# EAGLE library part NUCLEO-F767ZI (library NUCLEO-F429ZI)
STM32 Nucleo-144 development board with STM32F429ZIT6 MCU, supports Arduino, ST Zio and Morpho
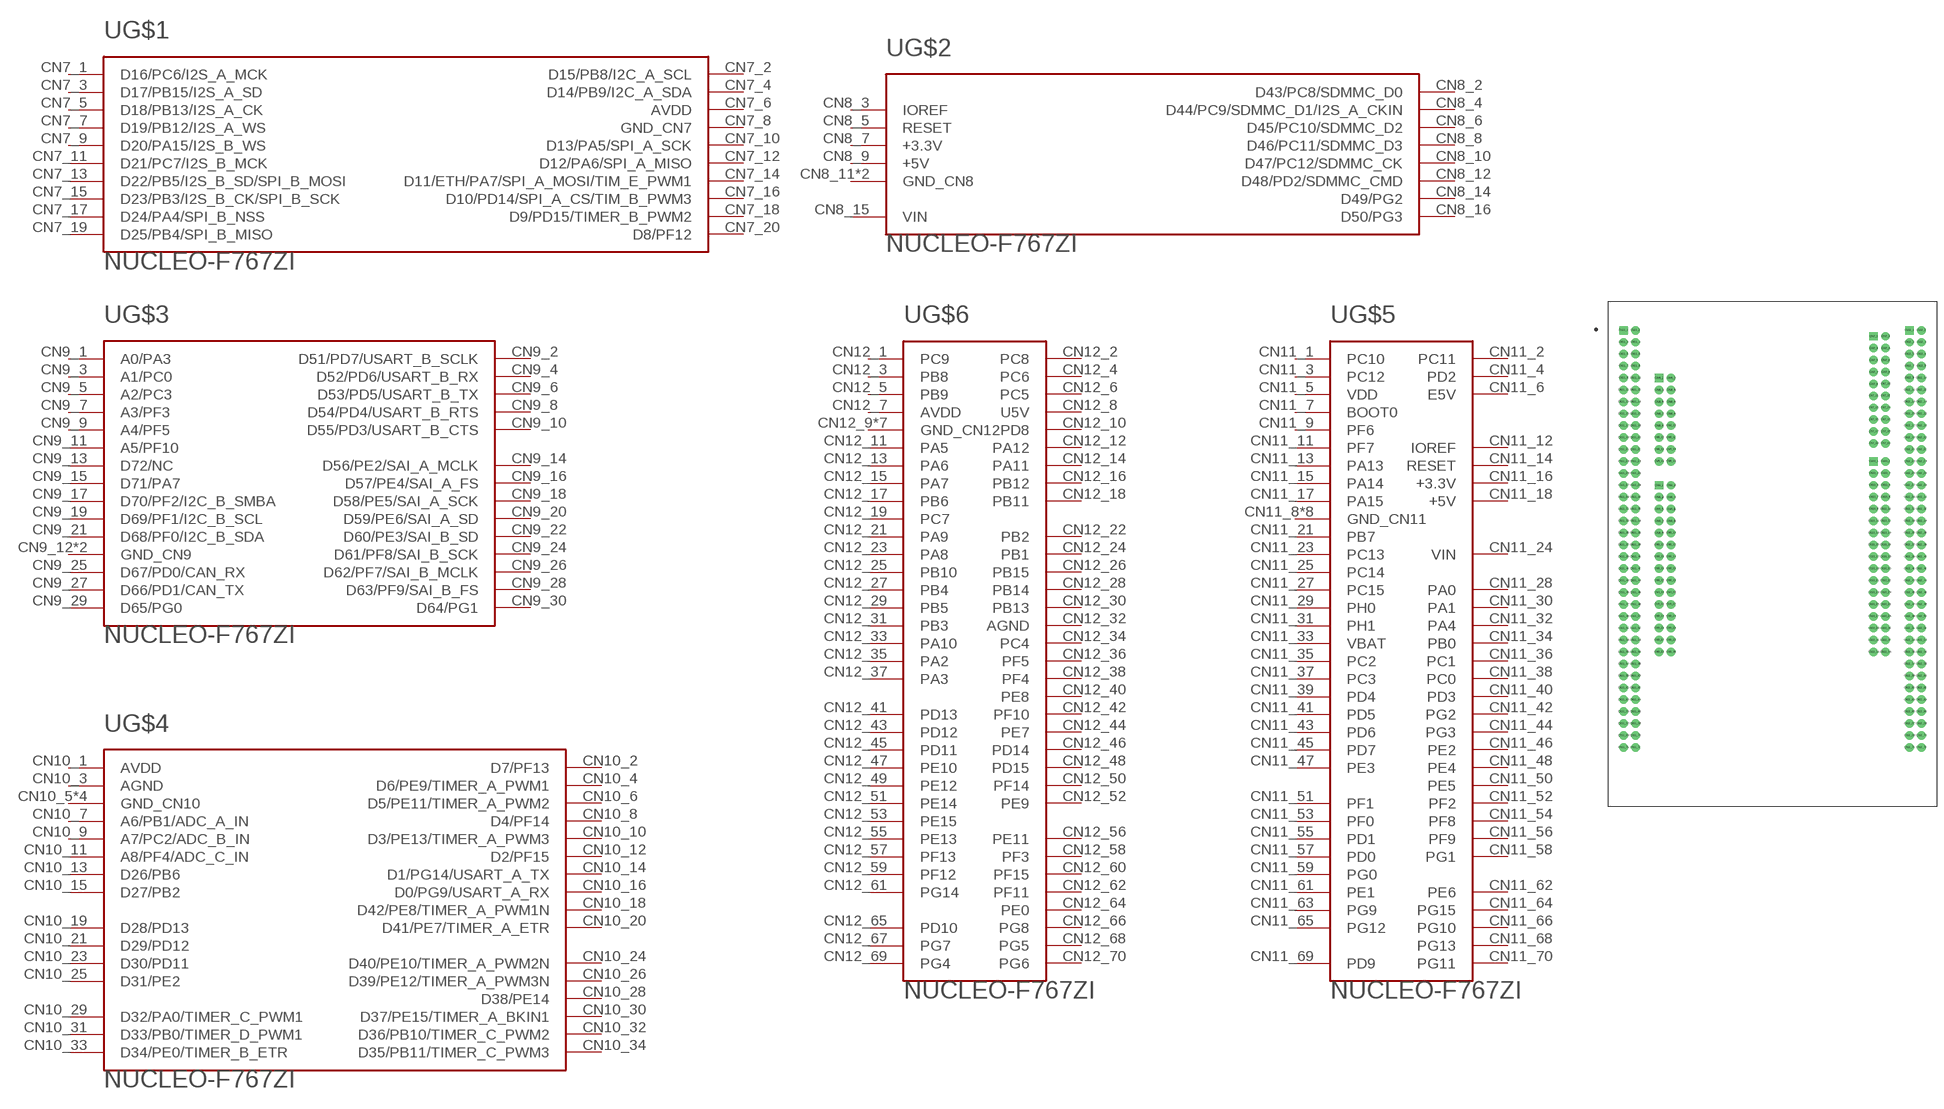
[diagram p0: symbol with the pads of MODULE_NUCLEO-F429ZI; footprint MODULE_NUCLEO-F429ZI]

Designator prefix U; gates G$1=NUCLEO-F429ZI_SECTION1 G$2=NUCLEO-F429ZI_SECTION2 G$3=NUCLEO-F429ZI_SECTION3 G$4=NUCLEO-F429ZI_SECTION4 G$5=NUCLEO-F429ZI_SECTION5 G$6=NUCLEO-F429ZI_SECTION6

## NUCLEO-F767ZI (AVAILABILITY: Unavailable; DESCRIPTION: STM32 Nucleo-144 development board with STM32F429ZIT6 MCU, supports Arduino, ST Zio and Morpho; MF: STMicroelectronics; MP: NUCLEO-F429ZI; PACKAGE: None; PRICE: None)  [MODULE_NUCLEO-F429ZI]
CN7_1  G$1:D16/PC6/I2S_A_MCK  pas
CN7_2  G$1:D15/PB8/I2C_A_SCL  pas
CN7_3  G$1:D17/PB15/I2S_A_SD  pas
CN7_4  G$1:D14/PB9/I2C_A_SDA  pas
CN7_5  G$1:D18/PB13/I2S_A_CK  pas
CN7_6  G$1:AVDD  pas
CN7_7  G$1:D19/PB12/I2S_A_WS  pas
CN7_8  G$1:GND_CN7  pas
CN7_9  G$1:D20/PA15/I2S_B_WS  pas
CN7_10  G$1:D13/PA5/SPI_A_SCK  pas
CN7_11  G$1:D21/PC7/I2S_B_MCK  pas
CN7_12  G$1:D12/PA6/SPI_A_MISO  pas
CN7_13  G$1:D22/PB5/I2S_B_SD/SPI_B_MOSI  pas
CN7_14  G$1:D11/ETH/PA7/SPI_A_MOSI/TIM_E_PWM1  pas
CN7_15  G$1:D23/PB3/I2S_B_CK/SPI_B_SCK  pas
CN7_16  G$1:D10/PD14/SPI_A_CS/TIM_B_PWM3  pas
CN7_17  G$1:D24/PA4/SPI_B_NSS  pas
CN7_18  G$1:D9/PD15/TIMER_B_PWM2  pas
CN7_19  G$1:D25/PB4/SPI_B_MISO  pas
CN7_20  G$1:D8/PF12  pas
CN8_2  G$2:D43/PC8/SDMMC_D0  pas
CN8_3  G$2:IOREF  pas
CN8_4  G$2:D44/PC9/SDMMC_D1/I2S_A_CKIN  pas
CN8_5  G$2:RESET  pas
CN8_6  G$2:D45/PC10/SDMMC_D2  pas
CN8_7  G$2:+3.3V  pas
CN8_8  G$2:D46/PC11/SDMMC_D3  pas
CN8_9  G$2:+5V  pas
CN8_10  G$2:D47/PC12/SDMMC_CK  pas
CN8_11  G$2:GND_CN8  pas
CN8_12  G$2:D48/PD2/SDMMC_CMD  pas
CN8_13  G$2:GND_CN8  pas
CN8_14  G$2:D49/PG2  pas
CN8_15  G$2:VIN  pas
CN8_16  G$2:D50/PG3  pas
CN9_1  G$3:A0/PA3  pas
CN9_2  G$3:D51/PD7/USART_B_SCLK  pas
CN9_3  G$3:A1/PC0  pas
CN9_4  G$3:D52/PD6/USART_B_RX  pas
CN9_5  G$3:A2/PC3  pas
CN9_6  G$3:D53/PD5/USART_B_TX  pas
CN9_7  G$3:A3/PF3  pas
CN9_8  G$3:D54/PD4/USART_B_RTS  pas
CN9_9  G$3:A4/PF5  pas
CN9_10  G$3:D55/PD3/USART_B_CTS  pas
CN9_11  G$3:A5/PF10  pas
CN9_12  G$3:GND_CN9  pas
CN9_13  G$3:D72/NC  pas
CN9_14  G$3:D56/PE2/SAI_A_MCLK  pas
CN9_15  G$3:D71/PA7  pas
CN9_16  G$3:D57/PE4/SAI_A_FS  pas
CN9_17  G$3:D70/PF2/I2C_B_SMBA  pas
CN9_18  G$3:D58/PE5/SAI_A_SCK  pas
CN9_19  G$3:D69/PF1/I2C_B_SCL  pas
CN9_20  G$3:D59/PE6/SAI_A_SD  pas
CN9_21  G$3:D68/PF0/I2C_B_SDA  pas
CN9_22  G$3:D60/PE3/SAI_B_SD  pas
CN9_23  G$3:GND_CN9  pas
CN9_24  G$3:D61/PF8/SAI_B_SCK  pas
CN9_25  G$3:D67/PD0/CAN_RX  pas
CN9_26  G$3:D62/PF7/SAI_B_MCLK  pas
CN9_27  G$3:D66/PD1/CAN_TX  pas
CN9_28  G$3:D63/PF9/SAI_B_FS  pas
CN9_29  G$3:D65/PG0  pas
CN9_30  G$3:D64/PG1  pas
CN10_1  G$4:AVDD  pas
CN10_2  G$4:D7/PF13  pas
CN10_3  G$4:AGND  pas
CN10_4  G$4:D6/PE9/TIMER_A_PWM1  pas
CN10_5  G$4:GND_CN10  pas
CN10_6  G$4:D5/PE11/TIMER_A_PWM2  pas
CN10_7  G$4:A6/PB1/ADC_A_IN  pas
CN10_8  G$4:D4/PF14  pas
CN10_9  G$4:A7/PC2/ADC_B_IN  pas
CN10_10  G$4:D3/PE13/TIMER_A_PWM3  pas
CN10_11  G$4:A8/PF4/ADC_C_IN  pas
CN10_12  G$4:D2/PF15  pas
CN10_13  G$4:D26/PB6  pas
CN10_14  G$4:D1/PG14/USART_A_TX  pas
CN10_15  G$4:D27/PB2  pas
CN10_16  G$4:D0/PG9/USART_A_RX  pas
CN10_17  G$4:GND_CN10  pas
CN10_18  G$4:D42/PE8/TIMER_A_PWM1N  pas
CN10_19  G$4:D28/PD13  pas
CN10_20  G$4:D41/PE7/TIMER_A_ETR  pas
CN10_21  G$4:D29/PD12  pas
CN10_22  G$4:GND_CN10  pas
CN10_23  G$4:D30/PD11  pas
CN10_24  G$4:D40/PE10/TIMER_A_PWM2N  pas
CN10_25  G$4:D31/PE2  pas
CN10_26  G$4:D39/PE12/TIMER_A_PWM3N  pas
CN10_27  G$4:GND_CN10  pas
CN10_28  G$4:D38/PE14  pas
CN10_29  G$4:D32/PA0/TIMER_C_PWM1  pas
CN10_30  G$4:D37/PE15/TIMER_A_BKIN1  pas
CN10_31  G$4:D33/PB0/TIMER_D_PWM1  pas
CN10_32  G$4:D36/PB10/TIMER_C_PWM2  pas
CN10_33  G$4:D34/PE0/TIMER_B_ETR  pas
CN10_34  G$4:D35/PB11/TIMER_C_PWM3  pas
CN11_1  G$5:PC10  pas
CN11_2  G$5:PC11  pas
CN11_3  G$5:PC12  pas
CN11_4  G$5:PD2  pas
CN11_5  G$5:VDD  pas
CN11_6  G$5:E5V  pas
CN11_7  G$5:BOOT0  pas
CN11_8  G$5:GND_CN11  pas
CN11_9  G$5:PF6  pas
CN11_11  G$5:PF7  pas
CN11_12  G$5:IOREF  pas
CN11_13  G$5:PA13  pas
CN11_14  G$5:RESET  pas
CN11_15  G$5:PA14  pas
CN11_16  G$5:+3.3V  pas
CN11_17  G$5:PA15  pas
CN11_18  G$5:+5V  pas
CN11_19  G$5:GND_CN11  pas
CN11_20  G$5:GND_CN11  pas
CN11_21  G$5:PB7  pas
CN11_22  G$5:GND_CN11  pas
CN11_23  G$5:PC13  pas
CN11_24  G$5:VIN  pas
CN11_25  G$5:PC14  pas
CN11_27  G$5:PC15  pas
CN11_28  G$5:PA0  pas
CN11_29  G$5:PH0  pas
CN11_30  G$5:PA1  pas
CN11_31  G$5:PH1  pas
CN11_32  G$5:PA4  pas
CN11_33  G$5:VBAT  pas
CN11_34  G$5:PB0  pas
CN11_35  G$5:PC2  pas
CN11_36  G$5:PC1  pas
CN11_37  G$5:PC3  pas
CN11_38  G$5:PC0  pas
CN11_39  G$5:PD4  pas
CN11_40  G$5:PD3  pas
CN11_41  G$5:PD5  pas
CN11_42  G$5:PG2  pas
CN11_43  G$5:PD6  pas
CN11_44  G$5:PG3  pas
CN11_45  G$5:PD7  pas
CN11_46  G$5:PE2  pas
CN11_47  G$5:PE3  pas
CN11_48  G$5:PE4  pas
CN11_49  G$5:GND_CN11  pas
CN11_50  G$5:PE5  pas
CN11_51  G$5:PF1  pas
CN11_52  G$5:PF2  pas
CN11_53  G$5:PF0  pas
CN11_54  G$5:PF8  pas
CN11_55  G$5:PD1  pas
CN11_56  G$5:PF9  pas
CN11_57  G$5:PD0  pas
CN11_58  G$5:PG1  pas
CN11_59  G$5:PG0  pas
CN11_60  G$5:GND_CN11  pas
CN11_61  G$5:PE1  pas
CN11_62  G$5:PE6  pas
CN11_63  G$5:PG9  pas
CN11_64  G$5:PG15  pas
CN11_65  G$5:PG12  pas
CN11_66  G$5:PG10  pas
CN11_68  G$5:PG13  pas
CN11_69  G$5:PD9  pas
CN11_70  G$5:PG11  pas
CN11_71  G$5:GND_CN11  pas
CN11_72  G$5:GND_CN11  pas
CN12_1  G$6:PC9  pas
CN12_2  G$6:PC8  pas
CN12_3  G$6:PB8  pas
CN12_4  G$6:PC6  pas
CN12_5  G$6:PB9  pas
CN12_6  G$6:PC5  pas
CN12_7  G$6:AVDD  pas
CN12_8  G$6:U5V  pas
CN12_9  G$6:GND_CN12  pas
CN12_10  G$6:PD8  pas
CN12_11  G$6:PA5  pas
CN12_12  G$6:PA12  pas
CN12_13  G$6:PA6  pas
CN12_14  G$6:PA11  pas
CN12_15  G$6:PA7  pas
CN12_16  G$6:PB12  pas
CN12_17  G$6:PB6  pas
CN12_18  G$6:PB11  pas
CN12_19  G$6:PC7  pas
CN12_20  G$6:GND_CN12  pas
CN12_21  G$6:PA9  pas
CN12_22  G$6:PB2  pas
CN12_23  G$6:PA8  pas
CN12_24  G$6:PB1  pas
CN12_25  G$6:PB10  pas
CN12_26  G$6:PB15  pas
CN12_27  G$6:PB4  pas
CN12_28  G$6:PB14  pas
CN12_29  G$6:PB5  pas
CN12_30  G$6:PB13  pas
CN12_31  G$6:PB3  pas
CN12_32  G$6:AGND  pas
CN12_33  G$6:PA10  pas
CN12_34  G$6:PC4  pas
CN12_35  G$6:PA2  pas
CN12_36  G$6:PF5  pas
CN12_37  G$6:PA3  pas
CN12_38  G$6:PF4  pas
CN12_39  G$6:GND_CN12  pas
CN12_40  G$6:PE8  pas
CN12_41  G$6:PD13  pas
CN12_42  G$6:PF10  pas
CN12_43  G$6:PD12  pas
CN12_44  G$6:PE7  pas
CN12_45  G$6:PD11  pas
CN12_46  G$6:PD14  pas
CN12_47  G$6:PE10  pas
CN12_48  G$6:PD15  pas
CN12_49  G$6:PE12  pas
CN12_50  G$6:PF14  pas
CN12_51  G$6:PE14  pas
CN12_52  G$6:PE9  pas
CN12_53  G$6:PE15  pas
CN12_54  G$6:GND_CN12  pas
CN12_55  G$6:PE13  pas
CN12_56  G$6:PE11  pas
CN12_57  G$6:PF13  pas
CN12_58  G$6:PF3  pas
CN12_59  G$6:PF12  pas
CN12_60  G$6:PF15  pas
CN12_61  G$6:PG14  pas
CN12_62  G$6:PF11  pas
CN12_63  G$6:GND_CN12  pas
CN12_64  G$6:PE0  pas
CN12_65  G$6:PD10  pas
CN12_66  G$6:PG8  pas
CN12_67  G$6:PG7  pas
CN12_68  G$6:PG5  pas
CN12_69  G$6:PG4  pas
CN12_70  G$6:PG6  pas
CN12_71  G$6:GND_CN12  pas
CN12_72  G$6:GND_CN12  pas

## Footprint MODULE_NUCLEO-F429ZI (pad centres in mm)
drill 1 pad 1.8 square: CN7_1 21.59,43.82; CN8_1 -24.13,34.93; CN9_1 -24.13,12.07; CN10_1 21.59,17.15; CN11_1 -31.75,45.09; CN12_1 29.21,45.09
drill 1 pad 1.8: CN7_2 24.13,43.82; CN7_3 21.59,41.28; CN7_4 24.13,41.28; CN7_5 21.59,38.74; CN7_6 24.13,38.74; CN7_7 21.59,36.2; CN7_8 24.13,36.2; CN7_9 21.59,33.66; CN7_10 24.13,33.66; CN7_11 21.59,31.12; CN7_12 24.13,31.12; CN7_13 21.59,28.58; CN7_14 24.13,28.58; CN7_15 21.59,26.04; CN7_16 24.13,26.04; CN7_17 21.59,23.5; CN7_18 24.13,23.5; CN7_19 21.59,20.96; CN7_20 24.13,20.96; CN8_2 -21.59,34.93; CN8_3 -24.13,32.39; CN8_4 -21.59,32.39; CN8_5 -24.13,29.85; CN8_6 -21.59,29.85; CN8_7 -24.13,27.31; CN8_8 -21.59,27.31; CN8_9 -24.13,24.77; CN8_10 -21.59,24.77; CN8_11 -24.13,22.23; CN8_12 -21.59,22.23; CN8_13 -24.13,19.69; CN8_14 -21.59,19.69; CN8_15 -24.13,17.15; CN8_16 -21.59,17.15; CN9_2 -21.59,12.07; CN9_3 -24.13,9.53; CN9_4 -21.59,9.53; CN9_5 -24.13,6.99; CN9_6 -21.59,6.99; CN9_7 -24.13,4.45; CN9_8 -21.59,4.45; CN9_9 -24.13,1.91; CN9_10 -21.59,1.91; CN9_11 -24.13,-0.63; CN9_12 -21.59,-0.63; CN9_13 -24.13,-3.17; CN9_14 -21.59,-3.17; CN9_15 -24.13,-5.71; CN9_16 -21.59,-5.71; CN9_17 -24.13,-8.25; CN9_18 -21.59,-8.25; CN9_19 -24.13,-10.79; CN9_20 -21.59,-10.79; CN9_21 -24.13,-13.33; CN9_22 -21.59,-13.33; CN9_23 -24.13,-15.87; CN9_24 -21.59,-15.87; CN9_25 -24.13,-18.41; CN9_26 -21.59,-18.41; CN9_27 -24.13,-20.95; CN9_28 -21.59,-20.95; CN9_29 -24.13,-23.49; CN9_30 -21.59,-23.49; CN10_2 24.13,17.15; CN10_3 21.59,14.61; CN10_4 24.13,14.61; CN10_5 21.59,12.07; CN10_6 24.13,12.07; CN10_7 21.59,9.53; CN10_8 24.13,9.53; CN10_9 21.59,6.99; CN10_10 24.13,6.99; CN10_11 21.59,4.45; CN10_12 24.13,4.45; CN10_13 21.59,1.91; CN10_14 24.13,1.91; CN10_15 21.59,-0.63; CN10_16 24.13,-0.63; CN10_17 21.59,-3.17; CN10_18 24.13,-3.17; CN10_19 21.59,-5.71; CN10_20 24.13,-5.71; CN10_21 21.59,-8.25; CN10_22 24.13,-8.25; CN10_23 21.59,-10.79; CN10_24 24.13,-10.79; CN10_25 21.59,-13.33; CN10_26 24.13,-13.33; CN10_27 21.59,-15.87; CN10_28 24.13,-15.87; CN10_29 21.59,-18.41; CN10_30 24.13,-18.41; CN10_31 21.59,-20.95; CN10_32 24.13,-20.95; CN10_33 21.59,-23.49; CN10_34 24.13,-23.49; CN11_2 -29.21,45.09; CN11_3 -31.75,42.55; CN11_4 -29.21,42.55; CN11_5 -31.75,40.01; CN11_6 -29.21,40.01; CN11_7 -31.75,37.47; CN11_8 -29.21,37.47; CN11_9 -31.75,34.93; CN11_10 -29.21,34.93; CN11_11 -31.75,32.39; CN11_12 -29.21,32.39; CN11_13 -31.75,29.85; CN11_14 -29.21,29.85; CN11_15 -31.75,27.31; CN11_16 -29.21,27.31; CN11_17 -31.75,24.77; CN11_18 -29.21,24.77; CN11_19 -31.75,22.23; CN11_20 -29.21,22.23; CN11_21 -31.75,19.69; CN11_22 -29.21,19.69; CN11_23 -31.75,17.15; CN11_24 -29.21,17.15; CN11_25 -31.75,14.61; CN11_26 -29.21,14.61; CN11_27 -31.75,12.07; CN11_28 -29.21,12.07; CN11_29 -31.75,9.53; CN11_30 -29.21,9.53; CN11_31 -31.75,6.99; CN11_32 -29.21,6.99; CN11_33 -31.75,4.45; CN11_34 -29.21,4.45; CN11_35 -31.75,1.91; CN11_36 -29.21,1.91; CN11_37 -31.75,-0.63; CN11_38 -29.21,-0.63; CN11_39 -31.75,-3.17; CN11_40 -29.21,-3.17; CN11_41 -31.75,-5.71; CN11_42 -29.21,-5.71; CN11_43 -31.75,-8.25; CN11_44 -29.21,-8.25; CN11_45 -31.75,-10.79; CN11_46 -29.21,-10.79; CN11_47 -31.75,-13.33; CN11_48 -29.21,-13.33; CN11_49 -31.75,-15.87; CN11_50 -29.21,-15.87; CN11_51 -31.75,-18.41; CN11_52 -29.21,-18.41; CN11_53 -31.75,-20.95; CN11_54 -29.21,-20.95; CN11_55 -31.75,-23.49; CN11_56 -29.21,-23.49; CN11_57 -31.75,-26.03; CN11_58 -29.21,-26.03; CN11_59 -31.75,-28.57; CN11_60 -29.21,-28.57; CN11_61 -31.75,-31.11; CN11_62 -29.21,-31.11; CN11_63 -31.75,-33.65; CN11_64 -29.21,-33.65; CN11_65 -31.75,-36.19; CN11_66 -29.21,-36.19; CN11_67 -31.75,-38.73; CN11_68 -29.21,-38.73; CN11_69 -31.75,-41.27; CN11_70 -29.21,-41.27; CN11_71 -31.75,-43.81; CN11_72 -29.21,-43.81; CN12_2 31.75,45.09; CN12_3 29.21,42.55; CN12_4 31.75,42.55; CN12_5 29.21,40.01; CN12_6 31.75,40.01; CN12_7 29.21,37.47; CN12_8 31.75,37.47; CN12_9 29.21,34.93; CN12_10 31.75,34.93; CN12_11 29.21,32.39; CN12_12 31.75,32.39; CN12_13 29.21,29.85; CN12_14 31.75,29.85; CN12_15 29.21,27.31; CN12_16 31.75,27.31; CN12_17 29.21,24.77; CN12_18 31.75,24.77; CN12_19 29.21,22.23; CN12_20 31.75,22.23; CN12_21 29.21,19.69; CN12_22 31.75,19.69; CN12_23 29.21,17.15; CN12_24 31.75,17.15; CN12_25 29.21,14.61; CN12_26 31.75,14.61; CN12_27 29.21,12.07; CN12_28 31.75,12.07; CN12_29 29.21,9.53; CN12_30 31.75,9.53; CN12_31 29.21,6.99; CN12_32 31.75,6.99; CN12_33 29.21,4.45; CN12_34 31.75,4.45; CN12_35 29.21,1.91; CN12_36 31.75,1.91; CN12_37 29.21,-0.63; CN12_38 31.75,-0.63; CN12_39 29.21,-3.17; CN12_40 31.75,-3.17; CN12_41 29.21,-5.71; CN12_42 31.75,-5.71; CN12_43 29.21,-8.25; CN12_44 31.75,-8.25; CN12_45 29.21,-10.79; CN12_46 31.75,-10.79; CN12_47 29.21,-13.33; CN12_48 31.75,-13.33; CN12_49 29.21,-15.87; CN12_50 31.75,-15.87; CN12_51 29.21,-18.41; CN12_52 31.75,-18.41; CN12_53 29.21,-20.95; CN12_54 31.75,-20.95; CN12_55 29.21,-23.49; CN12_56 31.75,-23.49; CN12_57 29.21,-26.03; CN12_58 31.75,-26.03; CN12_59 29.21,-28.57; CN12_60 31.75,-28.57; CN12_61 29.21,-31.11; CN12_62 31.75,-31.11; CN12_63 29.21,-33.65; CN12_64 31.75,-33.65; CN12_65 29.21,-36.19; CN12_66 31.75,-36.19; CN12_67 29.21,-38.73; CN12_68 31.75,-38.73; CN12_69 29.21,-41.27; CN12_70 31.75,-41.27; CN12_71 29.21,-43.81; CN12_72 31.75,-43.81